# Altium footprint library DG301.PcbLib: 11 footprints
Each footprint in its own frame and in the unit in brackets; x right, y up, seen from the top. Pads: shape width x height; smd on the part's side, far side on the other; paste and mask are expansions set on the pad; w line width, h text height; cw(c..) or ccw(c..) is an arc to the next point about the centre after c.
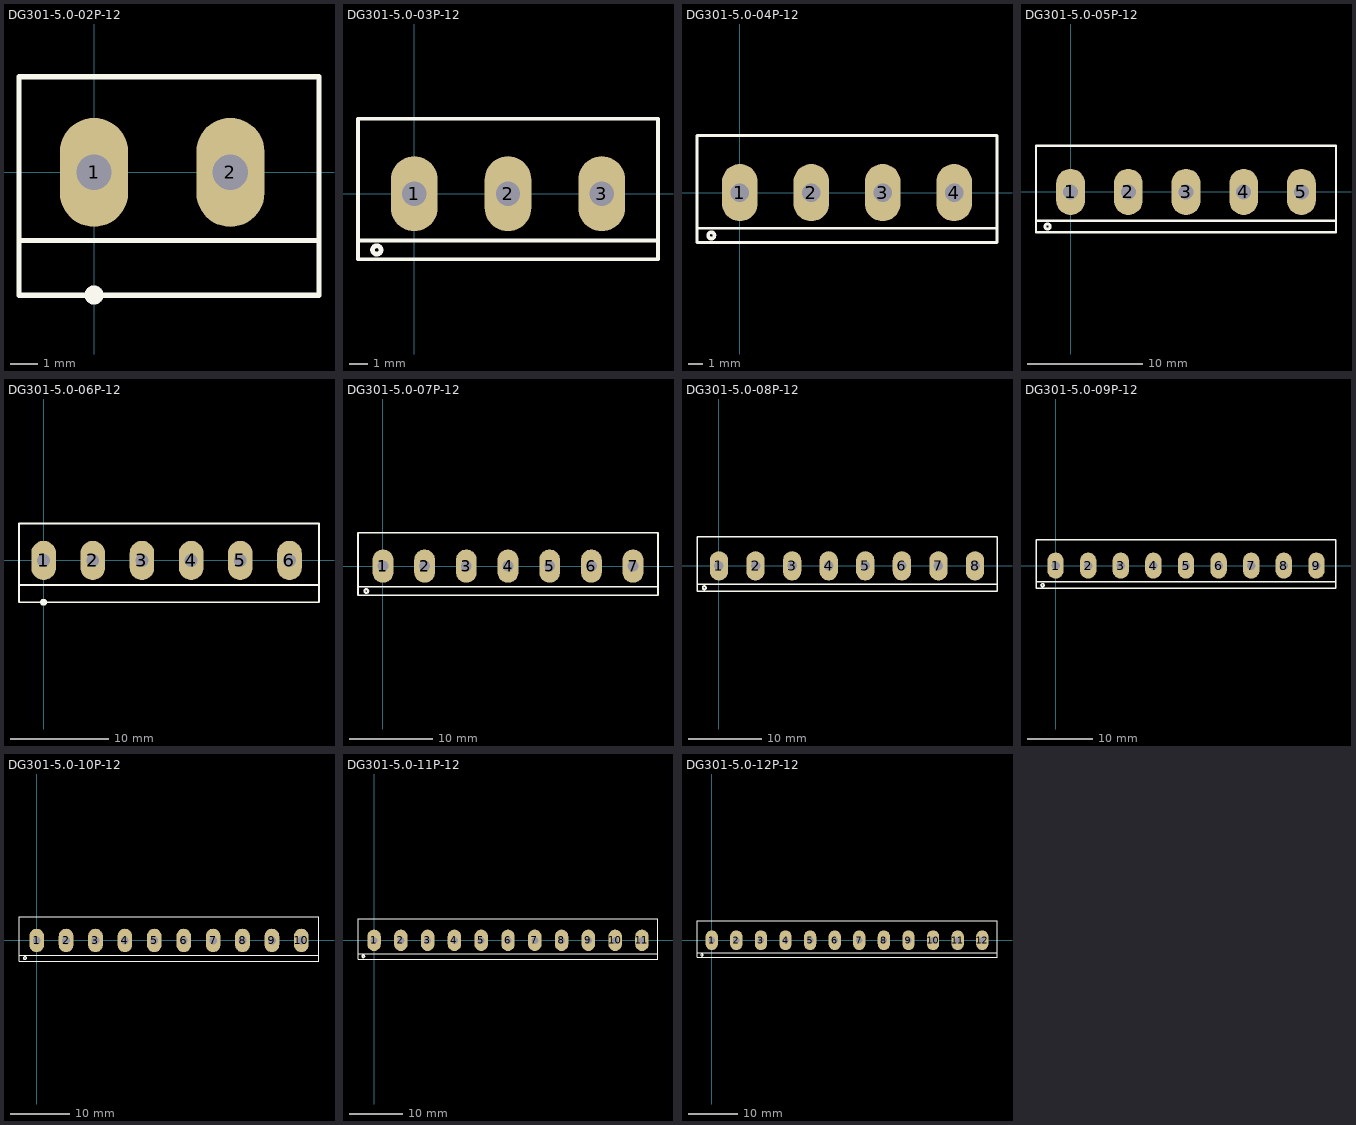
[diagram p0: the footprints below, top view; thin cyan lines are the x and y axes]

## DG301-5.0-02P-12 [mm]
pads (2):
  oval 2.5x4 hole 1.3: 1(0,0) 2(5,0)
Top Overlay:
  circle w0.254: c0,-4.5 r0.224
  lines w0.2: -2.75,-2.5 8.25,-2.5 ; -2.75,-4.5 8.25,-4.5 8.25,3.5 4.438,3.5 -0.687,3.5 -2.75,3.5 -2.75,-4.5
3D body: height 10, standoff -4.16, extent -2.5,-4.2 8.1,3.4

## DG301-5.0-03P-12 [mm]
pads (3):
  oval 2.5x4 hole 1.3: 1(0,0) 2(5,0) 3(10,0)
Top Overlay:
  circle w0.254: c-2,-3 r0.224
  lines w0.2: -3,-2.5 7.5,-2.5 13,-2.5 ; -3,-3.5 7.5,-3.5 13,-3.5 13,4 7.5,4 -3,4 -3,-3.5
3D body: height 10, standoff -4.16, extent -2.5,-4.2 13.1,3.4

## DG301-5.0-04P-12 [mm]
pads (4):
  oval 2.5x4 hole 1.3: 1(0,0) 2(5,0) 3(10,0) 4(15,0)
Top Overlay:
  circle w0.254: c-2,-3 r0.224
  lines w0.2: -3,-2.5 7.5,-2.5 18,-2.5 18,-2 ; -3,-3.5 7.5,-3.5 18,-3.5 18,4 7.5,4 -3,4 -3,-3.5
3D body: height 10, standoff -4.16, extent -2.5,-4.2 18.1,3.4

## DG301-5.0-05P-12 [mm]
pads (5):
  oval 2.5x4 hole 1.3: 1(0,0) 2(5,0) 3(10,0) 4(15,0) 5(20,0)
Top Overlay:
  circle w0.254: c-2,-3 r0.224
  lines w0.2: -3,-2.5 7.5,-2.5 23,-2.5 23,-2 ; -3,-3.5 -3,4 7.5,4 23,4 23,-3.5 7.5,-3.5 -3,-3.5
3D body: height 10, standoff -4.16, extent -2.5,-4.2 23.1,3.4

## DG301-5.0-06P-12 [mm]
pads (6):
  oval 2.5x4 hole 1.3: 1(0,0) 2(5,0) 3(10,0) 4(15,0) 5(20,0) 6(25,0)
Top Overlay:
  circle w0.254: c0,-4.25 r0.224
  lines w0.2: -2.5,-2.5 7.5,-2.5 28,-2.5 28,-2 ; -2.5,-4.25 6.75,-4.25 28,-4.25 28,3.75 7.75,3.75 -2.5,3.75 -2.5,-4.25
3D body: height 10, standoff -4.16, extent -2.5,-4.2 28.1,3.4

## DG301-5.0-07P-12 [mm]
pads (7):
  oval 2.5x4 hole 1.3: 1(0,0) 2(5,0) 3(10,0) 4(15,0) 5(20,0) 6(25,0) 7(30,0)
Top Overlay:
  circle w0.254: c-2,-3 r0.224
  lines w0.2: -3,-2.5 7.5,-2.5 33,-2.5 33,-2 ; -3,-3.5 7.5,-3.5 33,-3.5 33,4 7.5,4 -3,4 -3,-3.5
3D body: height 10, standoff -4.16, extent -2.5,-4.2 33.1,3.4

## DG301-5.0-08P-12 [mm]
pads (8):
  oval 2.5x4 hole 1.3: 1(0,0) 2(5,0) 3(10,0) 4(15,0) 5(20,0) 6(25,0) 7(30,0) 8(35,0)
Top Overlay:
  circle w0.254: c-2,-3 r0.224
  lines w0.2: -3,-2.5 7.5,-2.5 38,-2.5 38,-2 ; -3,-3.5 -3,4 7.5,4 38,4 38,-3.5 7.5,-3.5 -3,-3.5
3D body: height 10, standoff -4.16, extent -2.5,-4.2 38.1,3.4

## DG301-5.0-09P-12 [mm]
pads (9):
  oval 2.5x4 hole 1.3: 1(0,0) 2(5,0) 3(10,0) 4(15,0) 5(20,0) 6(25,0) 7(30,0) 8(35,0) 9(40,0)
Top Overlay:
  circle w0.254: c-2,-3 r0.224
  lines w0.2: -3,-2.5 7.5,-2.5 43,-2.5 43,-2 ; -3,-3.5 7.5,-3.5 43,-3.5 43,4 7.5,4 -3,4 -3,-3.5
3D body: height 10, standoff -4.16, extent -2.5,-4.2 43.1,3.4

## DG301-5.0-10P-12 [mm]
pads (10):
  oval 2.5x4 hole 1.3: 1(0,0) 2(5,0) 3(10,0) 4(15,0) 5(20,0) 6(25,0) 7(30,0) 8(35,0) 9(40,0) 10(45,0)
Top Overlay:
  circle w0.254: c-2,-3 r0.224
  lines w0.2: -3,-2.5 7.5,-2.5 48,-2.5 48,-2 ; -3,-3.5 7.5,-3.5 48,-3.5 48,4 7.5,4 -3,4 -3,-3.5
3D body: height 10, standoff -4.16, extent -2.5,-4.2 48.1,3.4

## DG301-5.0-11P-12 [mm]
pads (11):
  oval 2.5x4 hole 1.3: 1(0,0) 2(5,0) 3(10,0) 4(15,0) 5(20,0) 6(25,0) 7(30,0) 8(35,0) 9(40,0) 10(45,0) 11(50,0)
Top Overlay:
  circle w0.254: c-2,-3 r0.224
  lines w0.2: -3,-2.5 7.5,-2.5 53,-2.5 53,-2 ; -3,-3.5 -3,4 7.5,4 53,4 53,-3.5 7.5,-3.5 -3,-3.5
3D body: height 10, standoff -4.16, extent -2.5,-4.2 53.1,3.4

## DG301-5.0-12P-12 [mm]
pads (12):
  oval 2.5x4 hole 1.3: 1(0,0) 2(5,0) 3(10,0) 4(15,0) 5(20,0) 6(25,0) 7(30,0) 8(35,0) 9(40,0) 10(45,0) 11(50,0) 12(55,0)
Top Overlay:
  circle w0.254: c-2,-3 r0.224
  lines w0.2: -3,-2.5 7.5,-2.5 58,-2.5 58,-2 ; -3,-3.5 7.5,-3.5 58,-3.5 58,4 7.5,4 -3,4 -3,-3.5
3D body: height 10, standoff -4.16, extent -2.5,-4.2 58.1,3.4